# Altium footprint library MZBT_PcpLibrary.PcbLib: 144 footprints (part 4 of 9)
Each footprint in its own frame and in the unit in brackets; x right, y up, seen from the top. Pads: shape width x height; smd on the part's side, far side on the other; paste and mask are expansions set on the pad; w line width, h text height; cw(c..) or ccw(c..) is an arc to the next point about the centre after c.
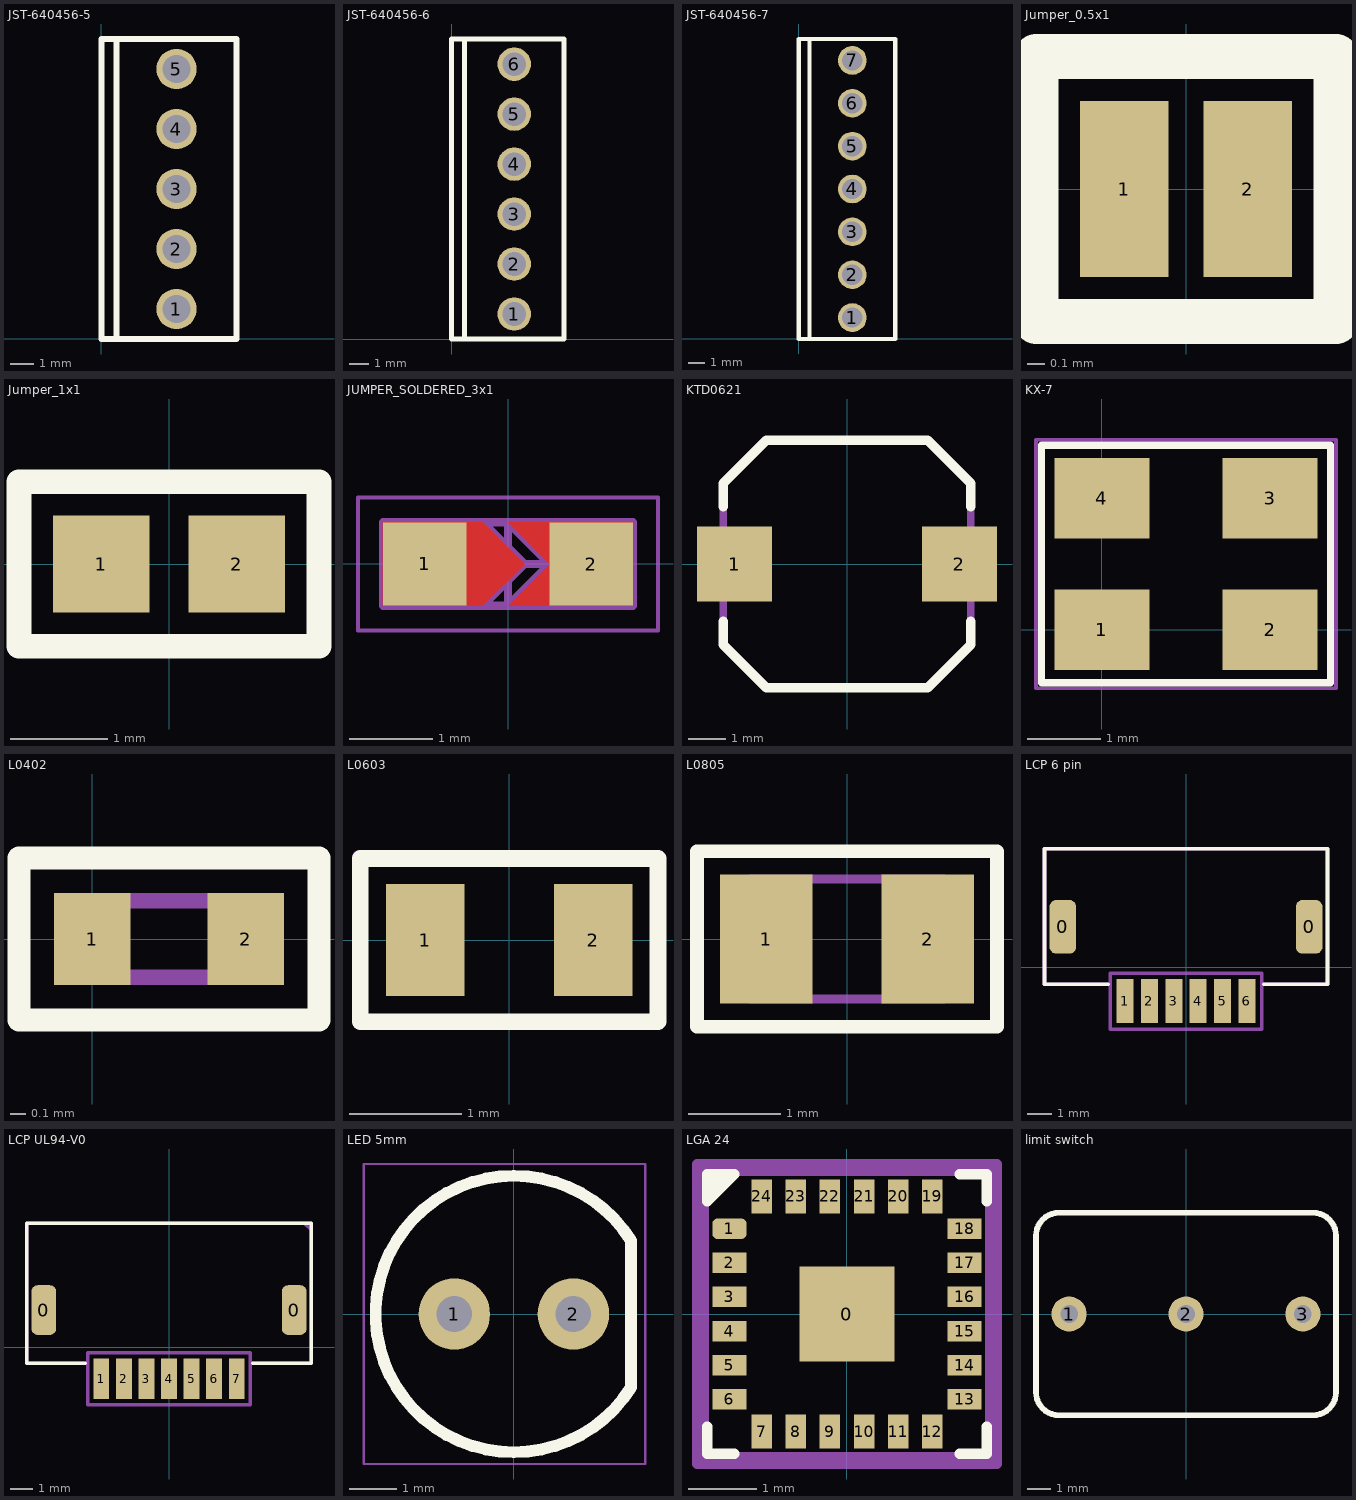
[diagram p3: the footprints below, top view; thin cyan lines are the x and y axes]

## JST-640456-5 [mm]
pads (5):
  round 1.7 hole 1.2: 1(3.18,1.27) 2(3.18,3.81) 3(3.18,6.35) 4(3.18,8.89) 5(3.18,11.43)
Top Overlay:
  lines w0.254: 0.64,0 0.64,12.7 ; 1.6,0 1.7,0 ; 0,0 0,12.7 5.72,12.7 5.72,0 0,0
Top Comment:
  text ".Comment" at 0.611,5.448 h1.52
Top Designator (Mech9):
  text ".Designator" at 0.183,6.672 h1.52
Top Courtyard:
  lines w0.102: 0,0 5.725,0 5.725,12.7 0,12.7 0,0
3D body "User Library-640456-5.step": height 10.03, standoff -3.56, extent 0,0 5.842,12.7

## JST-640456-6 [mm]
pads (6):
  round 1.7 hole 1.2: 1(3.18,1.27) 2(3.18,3.81) 3(3.18,6.35) 4(3.18,8.89) 5(3.18,11.43) 6(3.18,13.97)
Top Overlay:
  lines w0.254: 0.64,0 0.64,15.24 ; 1.6,0 1.7,0 ; 0,0 0,15.24 ; 0,0 5.72,0 5.72,15.24 0,15.24 ; 0,0 0,15.24
Top Comment:
  text ".Comment" at 0.611,6.648 h1.52
Top Designator (Mech9):
  text ".Designator" at 0.183,7.872 h1.52
Top Courtyard:
  lines w0.102: 0,0 5.725,0 5.725,15.25 0,15.25 0,0
3D body "User Library-640456-4.step": height 10.03, standoff -3.56, extent -0.122,5.08 5.72,15.24
3D body "User Library-640456-4.step": height 10.03, standoff -3.56, extent -0.122,0 5.72,10.16

## JST-640456-7 [mm]
pads (7):
  round 1.7 hole 1.2: 1(3.18,1.27) 2(3.18,3.81) 3(3.18,6.35) 4(3.18,8.89) 5(3.18,11.43) 6(3.18,13.97) 7(3.18,16.51)
Top Overlay:
  lines w0.254: 0.64,0 0.64,17.78 ; 1.6,0 1.7,0 ; 0,0 0,17.78 5.72,17.78 5.72,0 0,0
Top Comment:
  text ".Comment" at 0.711,8.048 h1.52
Top Designator (Mech9):
  text ".Designator" at 0.283,9.272 h1.52
Top Courtyard:
  lines w0.102: 0,0 5.725,0 5.725,17.775 0,17.775 0,0
3D body "User Library-640456-4.step": height 10.03, standoff -3.56, extent -0.061,0 5.781,10.16
3D body "User Library-640456-4.step": height 10.03, standoff -3.56, extent -0.061,7.62 5.781,17.78

## Jumper_0.5x1 [mm]
pads (2):
  rect 0.5x1 smd mask+0.1: 1(-0.35,0) 2(0.35,0)
Top Overlay:
  lines w0.254: -0.85,-0.75 0.85,-0.75 0.85,0.75 -0.85,0.75 -0.85,-0.75
Top Comment:
  text ".Comment" at -0.861,-0.374 h0.6
Top Designator (Mech9):
  text ".Designator" at -1.376,0.143 h0.8
Top Component Outline:
  lines w0.102: -0.775,-0.675 0.775,-0.675 0.775,0.7 -0.775,0.7 -0.775,-0.675
Top Courtyard:
  lines w0.102: -0.775,-0.675 0.775,-0.675 0.775,0.675 -0.775,0.675 -0.775,-0.675

## Jumper_1x1 [mm] "1x1"
pads (2):
  rect 1x1 smd mask+0.2: 1(-0.7,0) 2(0.7,0)
Top Overlay:
  lines w0.254: -1.55,-0.85 1.55,-0.85 1.55,0.85 -1.55,0.85 -1.55,-0.85
Top Comment:
  text ".Comment" at -0.861,-0.374 h0.6
Top Designator (Mech9):
  text ".Designator" at -1.376,0.143 h0.8
Top Component Outline:
  lines w0.102: -1.475,-0.775 1.5,-0.775 1.5,0.775 -1.475,0.775 -1.475,-0.775
Top Courtyard:
  lines w0.102: -1.475,-0.775 1.5,-0.775 1.5,0.775 -1.475,0.775 -1.475,-0.775

## JUMPER_SOLDERED_3x1 [mm]
pads (2):
  rect 1x1 smd: 1(-1,0) 2(1,0)
Top Layer:
  region: -1.5,0.5 -0.3,0.5 0.2,0 -0.3,-0.5 -1.5,-0.5
  region: 1.5,0.5 0,0.5 0.5,0 0,-0.5 1.5,-0.5
Top Comment:
  text ".Comment" at -1.718,-1.25 h1
Top Designator (Mech9):
  text ".Designator" at -1.945,0.825 h1
Top Component Outline:
  lines w0.1: -0.3,-0.5 0.2,0 -0.3,0.5 ; 0,-0.5 0.5,0 0,0.5 ; -1.5,-0.5 1.5,-0.5 1.5,0.5 -1.5,0.5 -1.5,-0.5
Top Courtyard:
  lines w0.05: -1.8,-0.8 -1.8,0.8 1.8,0.8 1.8,-0.8 -1.8,-0.8
  lines w0.1: -0.5,0 0.5,0 ; 0,-0.5 0,0.5
3D body: height 0.05, standoff 0, extent -1.5,-0.5 0.2,0.5
3D body: height 0.05, standoff 0, extent 0,-0.5 1.5,0.5

## KTD0621 [mm] "silicon tact switch"
pads (2):
  rect 2x2 smd: 1(-3,0) 2(3,0)
Top Overlay:
  lines w0.254: -3.302,-1.524 -3.302,-2.148 -2.148,-3.302 2.148,-3.302 3.302,-2.148 3.302,-1.524 ; -3.302,1.524 -3.302,2.148 -2.148,3.302 2.148,3.302 3.302,2.148 3.302,1.524
Top Component Outline:
  lines w0.2: -3.3,-2.15 -3.3,2.15 -2.15,3.3 2.15,3.3 3.3,2.15 3.3,-2.15 2.15,-3.3 -2.15,-3.3 -3.3,-2.15
Top Courtyard:
  lines w0.2: -3.302,-1.524 -3.302,-2.148 ; -3.302,1.524 -3.302,2.148 ; -3.302,-2.148 -3.302,2.148 ; -3.302,-2.148 -2.148,-3.302 2.148,-3.302 3.302,-2.148 3.302,2.148 2.148,3.302 -2.148,3.302 -3.302,2.148
3D body "KTD0621.stp": height 5, standoff 0, extent -3.3,-3 3.3,3

## KX-7 [mm]
pads (4):
  rect 1.3x1.1 smd: 1(0,0) 2(2.3,0) 3(2.3,1.8) 4(0,1.8)
Top Overlay:
  lines w0.102: -0.825,-0.725 3.125,-0.725 3.125,2.525 -0.825,2.525 -0.825,-0.725
Top Comment:
  text ".Comment" at 0.339,0.526 h0.6
Top Designator (Mech9):
  text ".Designator" at -0.176,1.043 h0.8
Top Courtyard:
  lines w0.05: -0.9,-0.8 -0.9,2.6 3.2,2.6 3.2,-0.8 -0.9,-0.8
3D body "User Library-GeyerElectronics_KX7.step": height 0.81, standoff 0, extent -0.457,-0.35 2.757,2.15

## L0402 [mm]
pads (2):
  rect 0.5x0.6 smd: 1(0,0) 2(1,0)
Top Overlay:
  lines w0.15: -0.48,-0.53 -0.48,0.53 1.48,0.53 1.48,-0.53 -0.48,-0.53
Top Comment:
  text ".Comment" at -0.336,-0.424 h0.6
Top Designator (Mech9):
  text ".Designator" at -0.851,0.093 h0.8
Top Component Outline:
  lines w0.1: 0,-0.25 1,-0.25 1,0.25 0,0.25 0,-0.25
3D body: height 0.35, standoff 0, extent 0,-0.25 1,0.25

## L0603 [mm]
height 0.8
pads (2):
  rect 0.7x1 smd: 1(-0.75,0) 2(0.75,0)
Top Overlay:
  lines w0.15: -1.33,-0.73 -1.33,0.73 1.33,0.73 1.33,-0.73 -1.33,-0.73
Top Comment:
  text ".Comment" at -0.861,-0.374 h0.6
Top Designator (Mech9):
  text ".Designator" at -1.376,0.143 h0.8
Top Component Outline:
  lines w0.1: -1.35,-0.725 -1.35,0.75 1.325,0.75 1.325,-0.725 -1.35,-0.725
3D body "SMD_0603.step": height 0.9, standoff 0, extent -0.825,-0.425 0.775,0.375

## L0805 [mm]
height 1.4
pads (2):
  rect 1x1.4 smd: 1(-0.875,0) 2(0.875,0)
Top Overlay:
  lines w0.15: -1.625,-0.95 1.625,-0.95 1.625,0.95 -1.625,0.95 -1.625,-0.95
Top Comment:
  text ".Comment" at -0.861,-0.374 h0.6
Top Designator (Mech9):
  text ".Designator" at -1.376,0.143 h0.8
Top Component Outline:
  lines w0.1: -1.05,-0.65 1.05,-0.65 1.05,0.65 -1.05,0.65 -1.05,-0.65
3D body: height 1.4, standoff 0, extent -1.05,-0.65 1.05,0.65

## LCP 6 pin [mm] "FFC мама 6 контактов"
pads (8):
  rrect50% 1.1x2.2 smd: 0(-5.05,1.65) 0(5.05,1.65)
  rect 0.7x1.8 smd: 1(-2.5,-1.4) 2(-1.5,-1.4) 3(-0.5,-1.4) 4(0.5,-1.4) 5(1.5,-1.4) 6(2.5,-1.4)
Top Overlay:
  lines w0.15: -3.2,-0.7 -5.8,-0.7 -5.8,4.85 5.8,4.85 5.8,-0.7 3.2,-0.7
Top Courtyard:
  lines w0.15: -3.1,-0.7 -5.8,-0.7 ; -5.8,-0.7 -5.8,4.85 ; -5.8,-0.7 -5.8,4.85 ; -5.8,4.85 5.8,4.85 ; -5.8,4.85 5.8,4.85 ; 5.8,-0.7 3.1,-0.7 5.8,-0.7 ; 5.8,-0.7 5.8,4.85 ; 5.8,-0.7 5.8,4.85 ; -3.1,-2.55 3.1,-2.55 3.1,-0.25 -3.1,-0.25 -3.1,-2.55
3D body "xb-fpc-cf-5006d0rf-10-nh.stp": height 1.54, standoff -0.01, extent -5.575,-1.25 5.575,4.6

## LCP UL94-V0 [mm] "FFC мама 7 контактов"
pads (9):
  rrect50% 1.1x2.2 smd: 0(-5.55,1.65) 0(5.55,1.65)
  rect 0.7x1.8 smd: 1(-3,-1.4) 2(-2,-1.4) 3(-1,-1.4) 4(0,-1.4) 5(1,-1.4) 6(2,-1.4) 7(3,-1.4)
Top Overlay:
  lines w0.15: -3.7,-0.7 -6.3,-0.7 -6.3,5.5 6.3,5.5 6.3,-0.7 3.7,-0.7
Top Courtyard:
  lines w0.15: -3.6,-0.7 -6.3,-0.7 ; -6.3,-0.7 -6.3,5.5 ; -6.3,-0.7 -6.3,5.5 ; -6.3,5.5 6,5.5 6.3,5.2 6.3,-0.7 ; -6.3,5.5 6.3,5.5 6.3,-0.7 ; 6.3,-0.7 3.6,-0.7 6.3,-0.7 ; -3.6,-2.55 3.6,-2.55 3.6,-0.25 -3.6,-0.25 -3.6,-2.55

## LED 5mm [mil]
pads (2):
  round 60 hole 30: 1(-50,0) 2(50,0)
Top Overlay:
  lines w10: 98.49,-61.55 cw(c0,0) 98.49,61.55 98.49,-61.55
Bottom Comment:
  text ".Designator" at -100.33,60.69 h60
  text ".Comment" at -100.33,15 h60
Top Courtyard:
  lines w1.97: -125.98,-125.98 110.24,-125.98 110.24,125.99 -125.98,125.99 -125.98,-125.98
3D body "SW3DPS-5MM LED RED-DEFAULT.X_T": height 338.58, standoff -196.85, extent -100.26,-100.39 100.26,100.39

## LGA 24 [mm]
pads (25):
  rect 1.4x1.4 smd: 0(0,0)
  rrect50% 0.5x0.3 smd: 1(-1.725,1.25)
  rect 0.5x0.3 smd: 2(-1.725,0.75) 3(-1.725,0.25) 4(-1.725,-0.25) 5(-1.725,-0.75) 6(-1.725,-1.25) 13(1.725,-1.25) 14(1.725,-0.75) 15(1.725,-0.25) 16(1.725,0.25) 17(1.725,0.75) 18(1.725,1.25)
  rect 0.3x0.5 smd: 7(-1.25,-1.725) 8(-0.75,-1.725) 9(-0.25,-1.725) 10(0.25,-1.725) 11(0.75,-1.725) 12(1.25,-1.725) 19(1.25,1.725) 20(0.75,1.725) 21(0.25,1.725) 22(-0.25,1.725) 23(-0.75,1.725) 24(-1.25,1.725)
Top Overlay:
  region: -2.05,2.05 -1.65,2.05 -2.05,1.65
  lines w0.15: -2.05,-1.65 -2.05,-2.05 -1.65,-2.05 ; 1.65,-2.05 2.05,-2.05 2.05,-1.65 ; 1.65,2.05 2.05,2.05 2.05,1.65 ; -2.05,1.65 -1.65,2.05 -2.05,2.05 -2.05,1.65
Top Court:
  lines w0.15: -2.1,-2.1 2.1,-2.1 2.1,2.1 -2.1,2.1 -2.1,-2.1
Top Comment:
  text ".Comment" at -0.861,-0.374 h0.6
Top Designator (Mech9):
  text ".Designator" at -1.376,0.143 h0.8
Top Courtyard:
  lines w0.15: -2.2,-2.2 2.2,-2.2 2.2,2.2 -2.2,2.2 -2.2,-2.2
3D body "User Library-LGA-24(CC-24-5).STEP": height 0.75, standoff -0.05, extent -2,-2 2,2

## limit switch [mil]
pads (3):
  round 60 hole 30: 1(-200,0) 2(0,0) 3(200,0)
Top Overlay:
  lines w10: -256.64,-133.86 ccw(c-217.27,-133.86) -217.27,-173.23 217.27,-173.23 ccw(c217.27,-133.86) 256.64,-133.86 256.64,133.86 ccw(c217.27,133.86) 217.27,173.23 -217.27,173.23 ccw(c-217.27,133.86) -256.64,133.86 -256.64,-133.86
Top Comment:
  text ".Comment" at -33.9,-14.74 h23.62
Top Designator (Mech9):
  text ".Designator" at -54.15,5.62 h31.5
3D body "limit_sw.stp": height 525.17, standoff 1.97, extent -253.94,-169.29 253.94,169.29